# EAGLE library part OPENADC (library openadc_footprint)
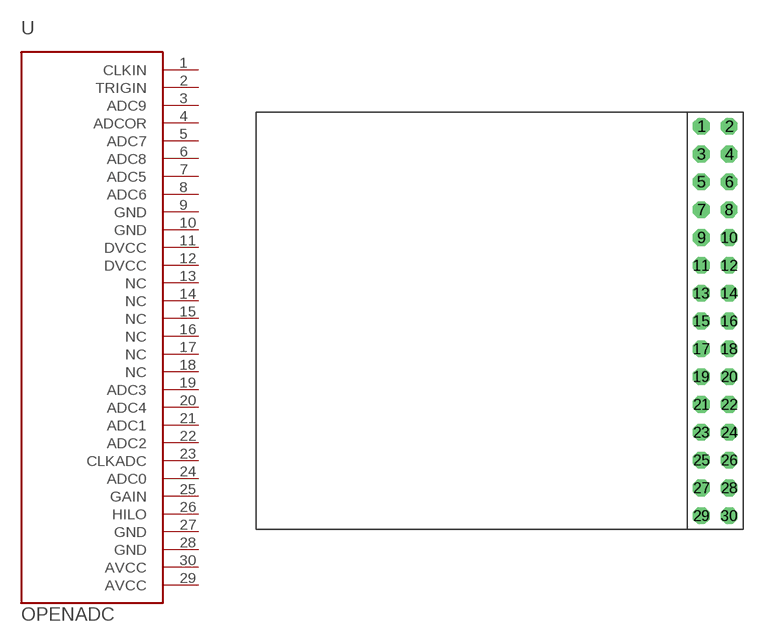
[diagram p0: symbol with the pads of OPENADCREV1; footprint OPENADCREV1]

Designator prefix -

## OPENADC  [OPENADCREV1]
1  CLKIN
2  TRIGIN
3  ADC9
4  ADCOR
5  ADC7
6  ADC8
7  ADC5
8  ADC6
9  GND
10  GND
11  DVCC
12  DVCC
13  NC
14  NC
15  NC
16  NC
17  NC
18  NC
19  ADC3
20  ADC4
21  ADC1
22  ADC2
23  CLKADC
24  ADC0
25  GAIN
26  HILO
27  GND
28  GND
29  AVCC
30  AVCC

## Footprint OPENADCREV1 (pad centres in mm)
drill 1.016 octagon: 1 0,17.78; 2 2.54,17.78; 3 0,15.24; 4 2.54,15.24; 5 0,12.7; 6 2.54,12.7; 7 0,10.16; 8 2.54,10.16; 9 0,7.62; 10 2.54,7.62; 11 0,5.08; 12 2.54,5.08; 13 0,2.54; 14 2.54,2.54; 15 0,0; 16 2.54,0; 17 0,-2.54; 18 2.54,-2.54; 19 0,-5.08; 20 2.54,-5.08; 21 0,-7.62; 22 2.54,-7.62; 23 0,-10.16; 24 2.54,-10.16; 25 0,-12.7; 26 2.54,-12.7; 27 0,-15.24; 28 2.54,-15.24; 29 0,-17.78; 30 2.54,-17.78